# EAGLE library part AS-ITM-00214 (library tinycircuits)
IC MCU 8BIT 8KB FLASH 32QFN
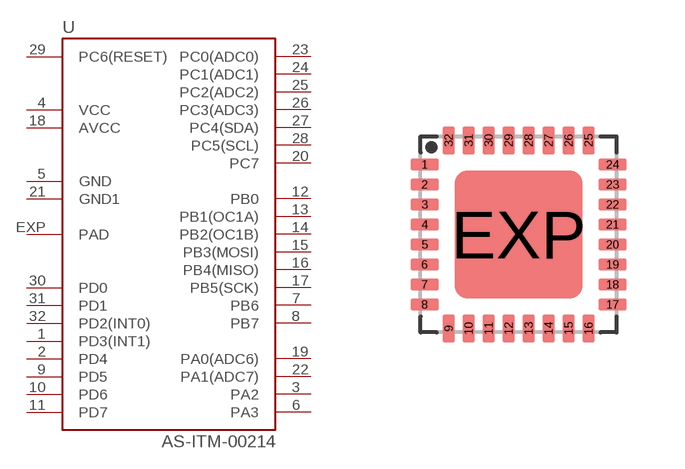
[diagram p90: symbol with the pads of ATMEL_QFN32; footprint ATMEL_QFN32]

Designator prefix U

## AS-ITM-00214 (PARTNO: AS-ITM-00214; VALUE: ATTINY88-MU)  [ATMEL_QFN32]
1  PD3(INT1)
2  PD4
3  PA2
4  VCC
5  GND
6  PA3
7  PB6
8  PB7
9  PD5
10  PD6
11  PD7
12  PB0
13  PB1(OC1A)
14  PB2(OC1B)
15  PB3(MOSI)
16  PB4(MISO)
17  PB5(SCK)
18  AVCC
19  PA0(ADC6)
20  PC7
21  GND1
22  PA1(ADC7)
23  PC0(ADC0)
24  PC1(ADC1)
25  PC2(ADC2)
26  PC3(ADC3)
27  PC4(SDA)
28  PC5(SCL)
29  PC6(RESET)
30  PD0
31  PD1
32  PD2(INT0)
EXP  PAD

## Footprint ATMEL_QFN32 (pad centres in mm)
QFN 32 5 x 5 mm Source: http://datasheets.maxim-ic.com/en/ds/MAX7042.pdf
smd 0.711 x 0.305: 1 -2.351,1.75; 2 -2.351,1.25; 3 -2.351,0.75; 4 -2.351,0.25; 5 -2.351,-0.25; 6 -2.351,-0.75; 7 -2.351,-1.25; 8 -2.351,-1.75; 17 2.351,-1.75; 18 2.351,-1.25; 19 2.351,-0.75; 20 2.351,-0.25; 21 2.351,0.25; 22 2.351,0.75; 23 2.351,1.25; 24 2.351,1.75
smd 0.305 x 0.711: 9 -1.75,-2.351; 10 -1.25,-2.351; 11 -0.75,-2.351; 12 -0.25,-2.351; 13 0.25,-2.351; 14 0.75,-2.351; 15 1.25,-2.351; 16 1.75,-2.351; 25 1.75,2.351; 26 1.25,2.351; 27 0.75,2.351; 28 0.25,2.351; 29 -0.25,2.351; 30 -0.75,2.351; 31 -1.25,2.351; 32 -1.75,2.351
smd 3.2 x 3.2: EXP 0,0